# EAGLE library part 7SEG_ANO (library FaBo-LED)
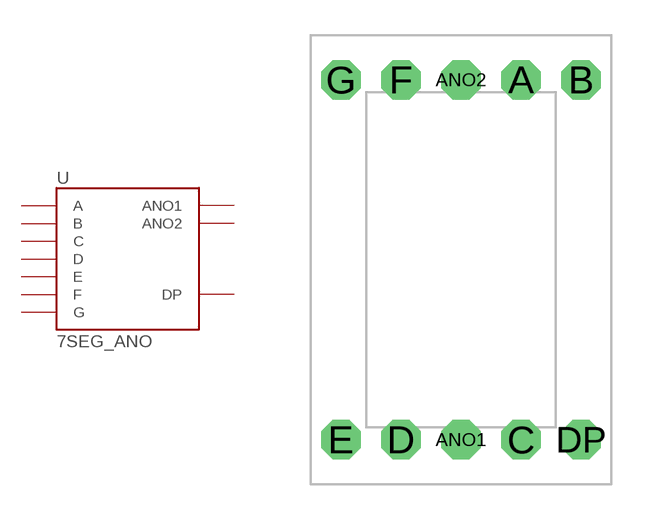
[diagram p2: symbol with the pads of A-551SRD; footprint A-551SRD]

Designator prefix U

## 7SEG_ANO  [A-551SRD]
A  A
ANO1  ANO1
ANO2  ANO2
B  B
C  C
D  D
DP  DP
E  E
F  F
G  G

## Footprint A-551SRD (pad centres in mm)
7segment LED anode common http://akizukidenshi.com/catalog/g/gI-00639/
drill 0.9 pad 1.676 octagon: A 2.54,7.62; ANO1 0,-7.62; ANO2 0,7.62; B 5.08,7.62; C 2.54,-7.62; D -2.54,-7.62; DP 5.08,-7.62; E -5.08,-7.62; F -2.54,7.62; G -5.08,7.62